# EAGLE library part JACK_TRRS2 (library MyLibrary)
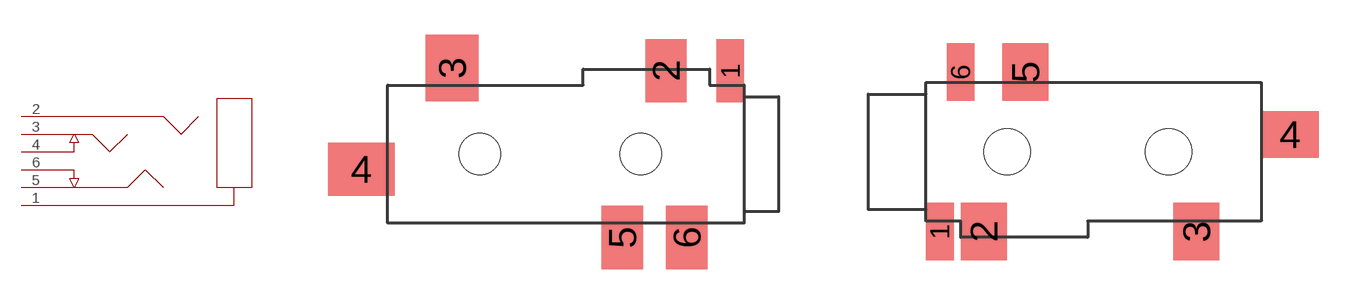
[diagram p19: symbol with the pads of LUMBERG_1503_21; footprints LUMBERG_1503_21, PJ-328B]

Designator prefix -

## JACK_TRRS2  [LUMBERG_1503_21]
1  1
2  2
3  3
4  4
5  5
6  6

## JACK_TRRS2PJ-328B  [PJ-328B]
Pads as for LUMBERG_1503_21

## JACK_TRRS2PJ-328B-2  [PJ-328B-2]
Pads as for LUMBERG_1503_21

## JACK_TRRS2PJ-328B-3  [PJ-328B-3]
Pads as for LUMBERG_1503_21

## Footprint LUMBERG_1503_21 (pad centres in mm)
smd 1.2 x 2.75: 1 -0.6,3.625
smd 1.8 x 2.75: 2 -3.4,3.625; 5 -5.3,-3.625; 6 -2.5,-3.625
smd 2.3 x 2.9: 3 -12.7,3.75
smd 2.9 x 2.3: 4 -16.65,-0.65
hole 1.8 at -4.5,0
hole 1.8 at -11.5,0

## Footprint PJ-328B (pad centres in mm)
smd 1.2 x 2.5: 1 0.6,-3.45; 6 1.5,3.45
smd 2 x 2.5: 2 2.5,-3.45; 3 11.7,-3.45; 5 4.3,3.45
smd 2.5 x 2: 4 15.75,0.75
hole 2 at 3.5,0
hole 2 at 10.5,0

## Footprint PJ-328B-2 (pad centres in mm)
smd 1.2 x 2.5: 1 0.6,-3.45; 6 2.5,3.45
smd 2 x 2.5: 2 3.5,-3.45; 3 12.7,-3.45; 5 5.4,3.45
smd 2.5 x 2: 4 16.85,0.75
hole 2 at 4.5,0
hole 2 at 11.5,0

## Footprint PJ-328B-3 (pad centres in mm)
smd 1.2 x 3.05: 1 0.6,-3.775
smd 1.8 x 2.75: 2 3.4,-3.625; 5 5.3,3.625; 6 2.5,3.625
smd 2.3 x 2.9: 3 12.7,-3.75
smd 2.9 x 2.3: 4 16.65,0.65
hole 2 at 4.5,0
hole 2 at 11.5,0